# Altium schematic symbol library EG912YEUAA-N06-SNNSA.SchLib: 1 symbol
Pins are listed as number, name and electrical type; pins without a type are passive.

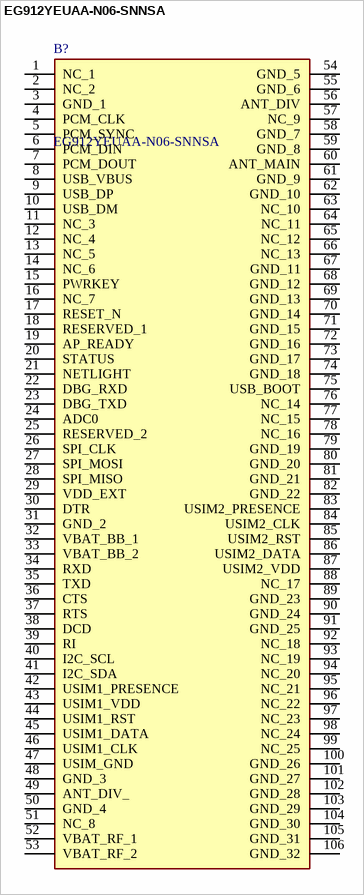
[diagram p0: symbol EG912YEUAA-N06-SNNSA]

## EG912YEUAA-N06-SNNSA
designator B?
DESCRIPTION PLACE HOLDER; Manufacturer_Name: Quectel; Geometry.Height: 2.5mm; Manufacturer_Part_Number: EG912YEUAA-N06-SNNSA; Mouser Part Number: 277-EG912YEUAN6SNNSA; Mouser Price/Stock: https://www.mouser.co.uk/ProductDetail/Quectel/EG912YEUAA-N06-SNNSA?qs=zW32dvEIR3tlKTTxnXn4Aw%3D%3D; Arrow Part Number: EG912YEUAA-N06-SNNSA; Arrow Price/Stock: https://www.arrow.com/en/products/eg912yeuaa-n06-snnsa/quectel-wireless-solutions-co-ltd?region=nac; Datasheet Link: *
footprint EG912YEUAAN06SNNSA
pins: 1 NC_1, 2 NC_2, 3 GND_1, 4 PCM_CLK, 5 PCM_SYNC, 6 PCM_DIN, 7 PCM_DOUT, 8 USB_VBUS, 9 USB_DP, 10 USB_DM, 11 NC_3, 12 NC_4, 13 NC_5, 14 NC_6, 15 PWRKEY, 16 NC_7, 17 RESET_N, 18 RESERVED_1, 19 AP_READY, 20 STATUS, 21 NETLIGHT, 22 DBG_RXD, 23 DBG_TXD, 24 ADC0, 25 RESERVED_2, 26 SPI_CLK, 27 SPI_MOSI, 28 SPI_MISO, 29 VDD_EXT, 30 DTR, 31 GND_2, 32 VBAT_BB_1, 33 VBAT_BB_2, 34 RXD, 35 TXD, 36 CTS, 37 RTS, 38 DCD, 39 RI, 40 I2C_SCL, 41 I2C_SDA, 42 USIM1_PRESENCE, 43 USIM1_VDD, 44 USIM1_RST, 45 USIM1_DATA, 46 USIM1_CLK, 47 USIM_GND, 48 GND_3, 49 ANT_DIV_, 50 GND_4, 51 NC_8, 52 VBAT_RF_1, 53 VBAT_RF_2, 54 GND_5, 55 GND_6, 56 ANT_DIV, 57 NC_9, 58 GND_7, 59 GND_8, 60 ANT_MAIN, 61 GND_9, 62 GND_10, 63 NC_10, 64 NC_11, 65 NC_12, 66 NC_13, 67 GND_11, 68 GND_12, 69 GND_13, 70 GND_14, 71 GND_15, 72 GND_16, 73 GND_17, 74 GND_18, 75 USB_BOOT, 76 NC_14, 77 NC_15, 78 NC_16, 79 GND_19, 80 GND_20, 81 GND_21, 82 GND_22, 83 USIM2_PRESENCE, 84 USIM2_CLK, 85 USIM2_RST, 86 USIM2_DATA, 87 USIM2_VDD, 88 NC_17, 89 GND_23, 90 GND_24, 91 GND_25, 92 NC_18, 93 NC_19, 94 NC_20, 95 NC_21, 96 NC_22, 97 NC_23, 98 NC_24, 99 NC_25, 100 GND_26, 101 GND_27, 102 GND_28, 103 GND_29, 104 GND_30, 105 GND_31, 106 GND_32